# EAGLE library part LPC11CX2/CX4 (library nxp-arm)
NXP Semiconductors LPC11Cxx microcontrollers <http://ics.nxp.com/products/lpc1000/lpc11xx/lpc11cxx/> ARM 32-bit Cortex-M0 Microcontroller with MPU CPU clock up to 50MHz 32KByte on-chip Flash ROM with In-System Programming (ISP) and In-Application Programming (IAP) via On-Chip Bootloader 8KByte SRAM Nested Vectored Interrupt Controller 2 SPI controllers CAN controller UART with full Modem Interface and RS485 Support Fast Mode I2C-Bus 4 Timers with 4 capture channels and 13 output channels Watchdog (WDT) Sytem tick timer 10-bit ADC with 8 channels Power Management Unit (PMU) Brownout detection 12MHz internal RC oscillator Serial Wire Debug/Trace port
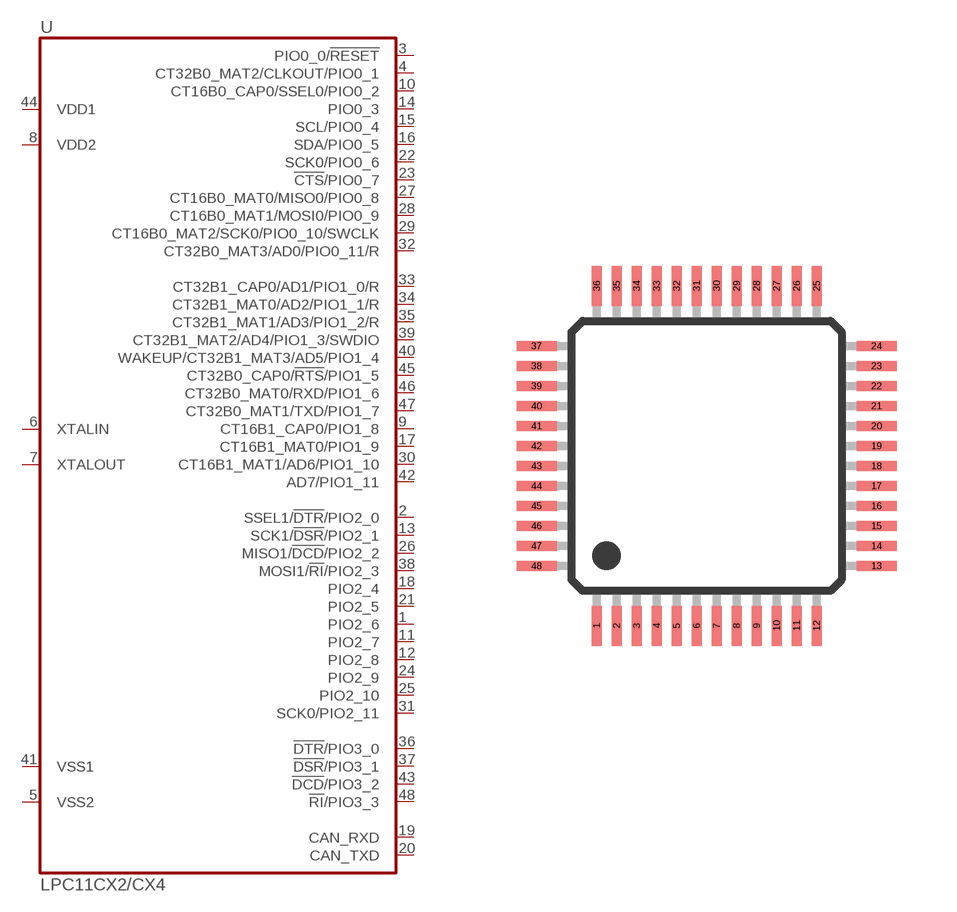
[diagram p16: symbol with the pads of LQFP48; footprint LQFP48]

Designator prefix U

## LPC11CX2/CX4  [LQFP48]
1  PIO2_6
2  SSEL1/!DTR!/PIO2_0
3  PIO0_0/!RESET!
4  CT32B0_MAT2/CLKOUT/PIO0_1
5  VSS2  pwr
6  XTALIN  pas
7  XTALOUT  pas
8  VDD2  pwr
9  CT16B1_CAP0/PIO1_8
10  CT16B0_CAP0/SSEL0/PIO0_2
11  PIO2_7
12  PIO2_8
13  SCK1/!DSR!/PIO2_1
14  PIO0_3
15  SCL/PIO0_4
16  SDA/PIO0_5
17  CT16B1_MAT0/PIO1_9
18  PIO2_4
19  CAN_RXD
20  CAN_TXD
21  PIO2_5
22  SCK0/PIO0_6
23  !CTS!/PIO0_7
24  PIO2_9
25  PIO2_10
26  MISO1/!DCD!/PIO2_2
27  CT16B0_MAT0/MISO0/PIO0_8
28  CT16B0_MAT1/MOSI0/PIO0_9
29  CT16B0_MAT2/SCK0/PIO0_10/SWCLK
30  CT16B1_MAT1/AD6/PIO1_10
31  SCK0/PIO2_11
32  CT32B0_MAT3/AD0/PIO0_11/R
33  CT32B1_CAP0/AD1/PIO1_0/R
34  CT32B1_MAT0/AD2/PIO1_1/R
35  CT32B1_MAT1/AD3/PIO1_2/R
36  !DTR!/PIO3_0
37  !DSR!/PIO3_1
38  MOSI1/!RI!/PIO2_3
39  CT32B1_MAT2/AD4/PIO1_3/SWDIO
40  WAKEUP/CT32B1_MAT3/AD5/PIO1_4
41  VSS1  pwr
42  AD7/PIO1_11
43  !DCD!/PIO3_2
44  VDD1  pwr
45  CT32B0_CAP0/!RTS!/PIO1_5
46  CT32B0_MAT0/RXD/PIO1_6
47  CT32B0_MAT1/TXD/PIO1_7
48  !RI!/PIO3_3

## Footprint LQFP48 (pad centres in mm)
LQFP48
smd 0.25 x 1: 1 -2.75,-4.25; 2 -2.25,-4.25; 3 -1.75,-4.25; 4 -1.25,-4.25; 5 -0.75,-4.25; 6 -0.25,-4.25; 7 0.25,-4.25; 8 0.75,-4.25; 9 1.25,-4.25; 10 1.75,-4.25; 11 2.25,-4.25; 12 2.75,-4.25; 25 2.75,4.25; 26 2.25,4.25; 27 1.75,4.25; 28 1.25,4.25; 29 0.75,4.25; 30 0.25,4.25; 31 -0.25,4.25; 32 -0.75,4.25; 33 -1.25,4.25; 34 -1.75,4.25; 35 -2.25,4.25; 36 -2.75,4.25
smd 1 x 0.25: 13 4.25,-2.75; 14 4.25,-2.25; 15 4.25,-1.75; 16 4.25,-1.25; 17 4.25,-0.75; 18 4.25,-0.25; 19 4.25,0.25; 20 4.25,0.75; 21 4.25,1.25; 22 4.25,1.75; 23 4.25,2.25; 24 4.25,2.75; 37 -4.25,2.75; 38 -4.25,2.25; 39 -4.25,1.75; 40 -4.25,1.25; 41 -4.25,0.75; 42 -4.25,0.25; 43 -4.25,-0.25; 44 -4.25,-0.75; 45 -4.25,-1.25; 46 -4.25,-1.75; 47 -4.25,-2.25; 48 -4.25,-2.75